# EAGLE library part TC2050-IDC (library be_tag_connect)
drawn: Mario Blunk / Blunk electronic
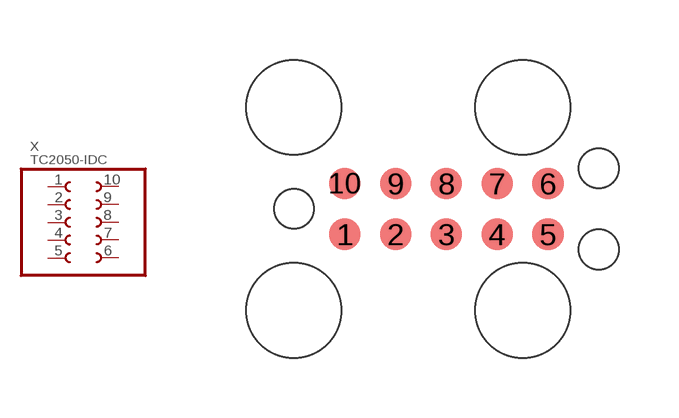
[diagram p0: symbol with the pads of TC2050-IDC; footprint TC2050-IDC]

Designator prefix X

## TC2050-IDC (BOM: NO; COMMISSIONED: 2013-10-02; PART_CODE_BEL: X_PAC_none_VAL_TC2050-IDC)  [TC2050-IDC]
1  1  pas
2  2  pas
3  3  pas
4  4  pas
5  5  pas
6  6  pas
7  7  pas
8  8  pas
9  9  pas
10  10  pas

## Footprint TC2050-IDC (pad centres in mm)
TC2050-IDC package/footprint drawn: Mario Blunk / Blunk electronic date: 2013-12-11
smd 0.787 x 0.787: 1 -2.54,-0.635; 2 -1.27,-0.635; 3 0,-0.635; 4 1.27,-0.635; 5 2.54,-0.635; 6 2.54,0.635; 7 1.27,0.635; 8 0,0.635; 9 -1.27,0.635; 10 -2.54,0.635
hole 0.991 at -3.81,0
hole 0.991 at 3.81,1.016
hole 0.991 at 3.81,-1.016
hole 2.375 at -3.81,2.54
hole 2.375 at -3.81,-2.54
hole 2.375 at 1.905,2.54
hole 2.375 at 1.905,-2.54